# Altium schematic symbol library SPINEW.SchLib: 8 symbols
Pins are listed as number, name and electrical type; pins without a type are passive.

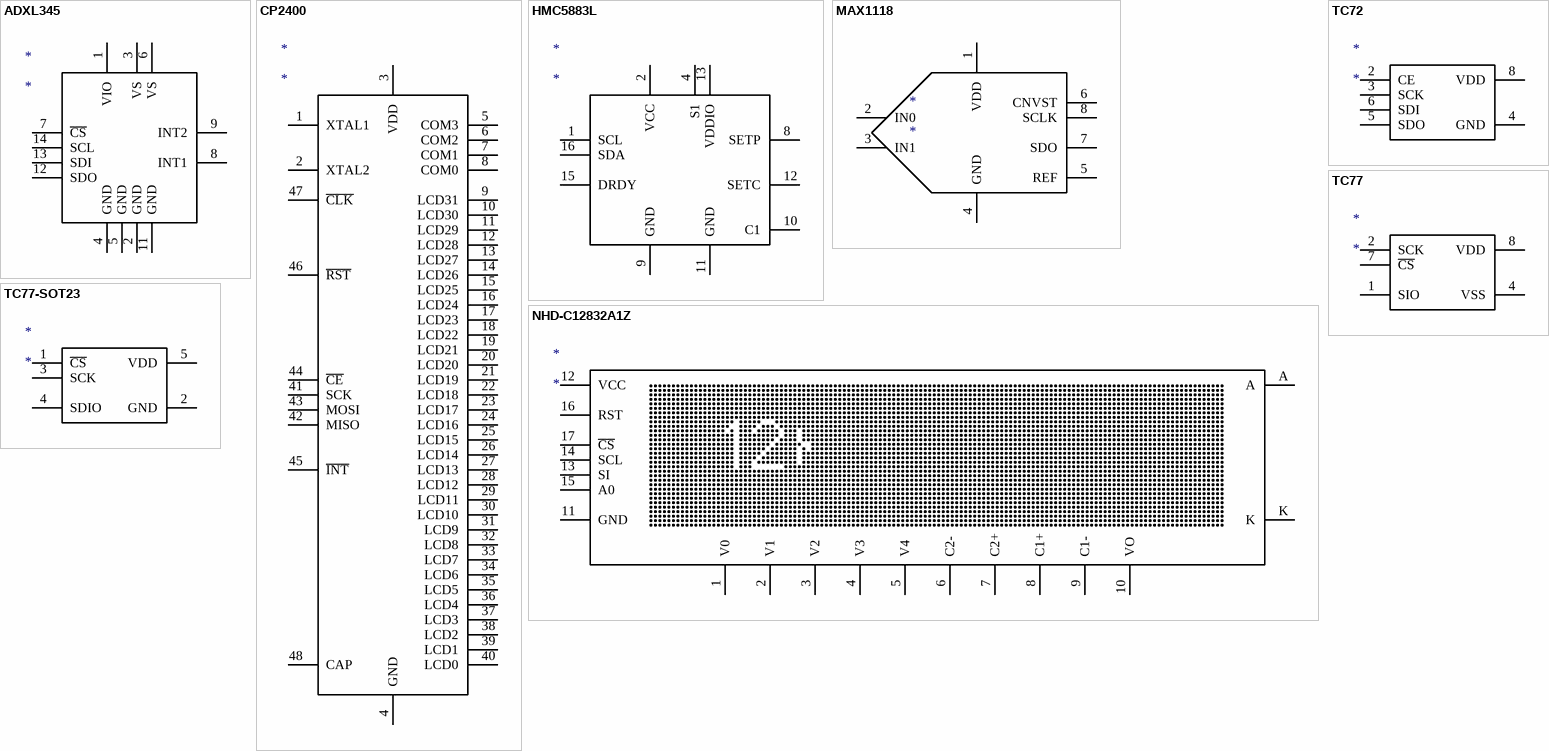
[diagram p0: symbols ADXL345 to TC77-SOT23]

## ADXL345
designator *
pins: 1 VIO, 2 GND, 3 VS, 4 GND, 5 GND, 6 VS, 7 ~{CS}, 8 INT1, 9 INT2, 11 GND, 12 SDO, 13 SDI, 14 SCL

## CP2400
designator *
pins: 1 XTAL1, 2 XTAL2, 3 VDD, 4 GND, 5 COM3, 6 COM2, 7 COM1, 8 COM0, 9 LCD31, 10 LCD30, 11 LCD29, 12 LCD28, 13 LCD27, 14 LCD26, 15 LCD25, 16 LCD24, 17 LCD23, 18 LCD22, 19 LCD21, 20 LCD20, 21 LCD19, 22 LCD18, 23 LCD17, 24 LCD16, 25 LCD15, 26 LCD14, 27 LCD13, 28 LCD12, 29 LCD11, 30 LCD10, 31 LCD9, 32 LCD8, 33 LCD7, 34 LCD6, 35 LCD5, 36 LCD4, 37 LCD3, 38 LCD2, 39 LCD1, 40 LCD0, 41 SCK, 42 MISO, 43 MOSI, 44 ~{CE}, 45 ~{INT}, 46 ~{RST}, 47 ~{CLK}, 48 CAP

## HMC5883L
designator *
pins: 1 SCL, 2 VCC, 4 S1, 8 SETP, 9 GND, 10 C1, 11 GND, 12 SETC, 13 VDDIO, 15 DRDY, 16 SDA

## MAX1118
designator *
pins: 1 VDD, 2 IN0, 3 IN1, 4 GND, 5 REF, 6 CNVST, 7 SDO, 8 SCLK

## NHD-C12832A1Z
designator *
pins: 1 V0, 2 V1, 3 V2, 4 V3, 5 V4, 6 C2-, 7 C2+, 8 C1+, 9 C1-, 10 VO, 11 GND, 12 VCC, 13 SI, 14 SCL, 15 A0, 16 RST, 17 ~{CS}, A, K

## TC72
designator *
pins: 2 CE, 3 SCK, 4 GND, 5 SDO, 6 SDI, 8 VDD

## TC77
designator *
pins: 1 SIO, 2 SCK, 4 VSS, 7 ~{CS}, 8 VDD

## TC77-SOT23
designator *
pins: 1 ~{CS}, 2 GND, 3 SCK, 4 SDIO, 5 VDD